# Altium footprint library lianchen_lib.PcbLib: 233 footprints (part 6 of 15)
Each footprint in its own frame and in the unit in brackets; x right, y up, seen from the top. Pads: shape width x height; smd on the part's side, far side on the other; paste and mask are expansions set on the pad; w line width, h text height; cw(c..) or ccw(c..) is an arc to the next point about the centre after c.
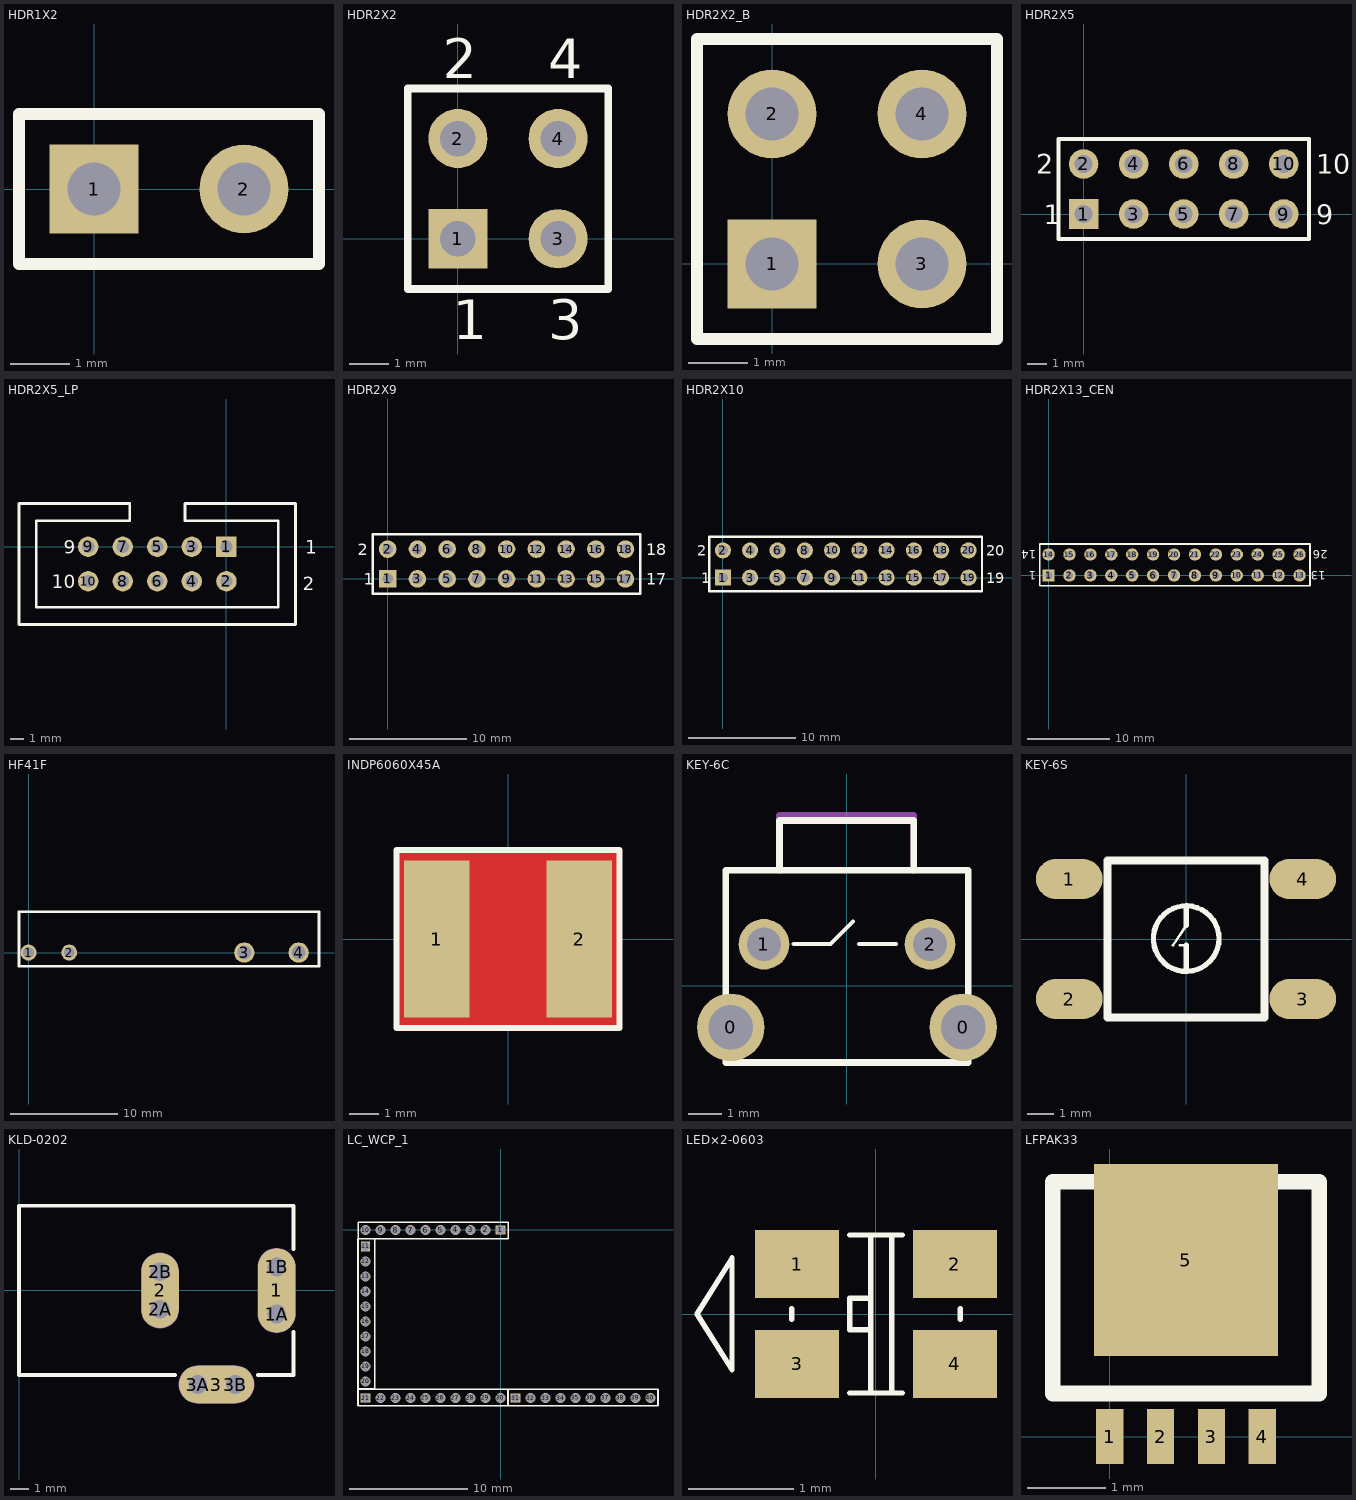
[diagram p5: the footprints below, top view; thin cyan lines are the x and y axes]

## HDR1X2 [mm]
pads (2):
  rect 1.5x1.5 hole 0.9: 1(0,0)
  round 1.5 hole 0.9: 2(2.54,0)
Top Overlay:
  lines w0.2: -1.27,-1.27 3.81,-1.27 3.81,1.27 -1.27,1.27 -1.27,-1.27

## HDR2X2 [mm]
pads (4):
  rect 1.5x1.5 hole 0.9: 1(0,0)
  round 1.5 hole 0.9: 2(0,2.54) 3(2.54,0) 4(2.54,2.54)
Top Overlay:
  lines w0.2: -1.27,-1.27 3.81,-1.27 3.81,3.81 -1.27,3.81 -1.27,-1.27
  text "3" at 2.286,-2.54 h1
  text "4" at 2.286,4.064 h1
  text "2" at -0.381,4.064 h1
  text "1" at -0.127,-2.54 h1

## HDR2X2_B [mm]
pads (4):
  rect 1.5x1.5 hole 0.9: 1(0,0)
  round 1.5 hole 0.9: 2(0,2.54) 3(2.54,0) 4(2.54,2.54)
Top Overlay:
  lines w0.2: -1.27,-1.27 3.81,-1.27 3.81,3.81 -1.27,3.81 -1.27,-1.27

## HDR2X5 [mm]
pads (10):
  rect 1.5x1.5 hole 0.9: 1(0,0)
  round 1.5 hole 0.9: 2(0,2.54) 3(2.54,0) 4(2.54,2.54) 5(5.08,0) 6(5.08,2.54) 7(7.62,0) 8(7.62,2.54) 9(10.16,0) 10(10.16,2.54)
Top Overlay:
  lines w0.2: -1.27,-1.27 -1.27,3.81 11.43,3.81 11.43,-1.27 -1.27,-1.27
  text "2" at -2.413,2.032 h1
  text "1" at -2.032,-0.508 h1
  text "9" at 11.811,-0.508 h1
  text "10" at 11.811,2.032 h1

## HDR2X5_LP [mm]
pads (10):
  rect 1.5x1.5 hole 0.9: 1(0.003,0.004)
  round 1.5 hole 0.9: 2(0.003,-2.536) 3(-2.537,0.004) 4(-2.537,-2.536) 5(-5.077,0.004) 6(-5.077,-2.536) 7(-7.617,0.004) 8(-7.617,-2.536) 9(-10.157,0.004) 10(-10.157,-2.536)
Top Overlay:
  lines w0.2: -7.109,1.909 -7.109,3.179 -15.237,3.179 -15.237,-5.711 5.083,-5.711 5.083,3.179 -3.045,3.179 -3.045,1.909 ; -7.1,1.909 -13.967,1.909 -13.967,-4.441 3.813,-4.441 3.813,1.91 -3.05,1.91
  text "2" at 5.603,-3.196 h1
  text "1" at 5.803,-0.496 h1
  text "9" at -11.935,-0.504 h1
  text "10" at -12.824,-3.044 h1
3D body: height 10, standoff 0, extent -15.237,-5.711 5.082,3.178
3D body: height 2, standoff 0, extent -15.24,-5.715 5.08,3.175
3D body: height 10, standoff 0, extent -0.5,-0.5 0.5,0.5
3D body: height 10, standoff 0, extent -3.04,-0.5 -2.04,0.5
3D body: height 10, standoff 0, extent -5.58,-0.5 -4.58,0.5
3D body: height 10, standoff 0, extent -8.12,-0.5 -7.12,0.5
3D body: height 10, standoff 0, extent -10.66,-0.5 -9.66,0.5
3D body: height 10, standoff 0, extent -10.66,-3.04 -9.66,-2.04
3D body: height 10, standoff 0, extent -8.12,-3.04 -7.12,-2.04
3D body: height 10, standoff 0, extent -5.58,-3.04 -4.58,-2.04
3D body: height 10, standoff 0, extent -3.04,-3.04 -2.04,-2.04
3D body: height 10, standoff 0, extent -0.5,-3.04 0.5,-2.04

## HDR2X9 [mm]
pads (18):
  rect 1.5x1.5 hole 0.9: 1(0,0)
  round 1.5 hole 0.9: 2(0,2.54) 3(2.54,0) 4(2.54,2.54) 5(5.08,0) 6(5.08,2.54) 7(7.62,0) 8(7.62,2.54) 9(10.16,0) 10(10.16,2.54) 11(12.7,0) 12(12.7,2.54) 13(15.24,0) 14(15.24,2.54) 15(17.78,0) 16(17.78,2.54) 17(20.32,0) 18(20.32,2.54)
Top Overlay:
  lines w0.2: -1.27,-1.27 -1.27,3.81 21.59,3.81 21.59,-1.27 -1.27,-1.27
  text "2" at -2.54,2.032 h1
  text "1" at -2.032,-0.508 h1
  text "17" at 22.098,-0.508 h1
  text "18" at 22.098,2.032 h1

## HDR2X10 [mm]
pads (20):
  rect 1.5x1.5 hole 0.9: 1(0,0)
  round 1.5 hole 0.9: 2(0,2.54) 3(2.54,0) 4(2.54,2.54) 5(5.08,0) 6(5.08,2.54) 7(7.62,0) 8(7.62,2.54) 9(10.16,0) 10(10.16,2.54) 11(12.7,0) 12(12.7,2.54) 13(15.24,0) 14(15.24,2.54) 15(17.78,0) 16(17.78,2.54) 17(20.32,0) 18(20.32,2.54) 19(22.86,0) 20(22.86,2.54)
Top Overlay:
  lines w0.2: -1.27,-1.27 24.13,-1.27 24.13,3.81 -1.27,3.81 -1.27,-1.27
  text "2" at -2.413,2.032 h1
  text "1" at -2.032,-0.508 h1
  text "19" at 24.511,-0.508 h1
  text "20" at 24.511,2.032 h1

## HDR2X13_CEN [mm]
pads (26):
  rect 1.5x1.5 hole 0.9: 1(0,0)
  round 1.5 hole 0.9: 2(2.54,0) 3(5.08,0) 4(7.62,0) 5(10.16,0) 6(12.7,0) 7(15.24,0) 8(17.78,0) 9(20.32,0) 10(22.86,0) 11(25.4,0) 12(27.94,0) 13(30.48,0) 14(0,2.54) 15(2.54,2.54) 16(5.08,2.54) 17(7.62,2.54) 18(10.16,2.54) 19(12.7,2.54) 20(15.24,2.54) 21(17.78,2.54) 22(20.32,2.54) 23(22.86,2.54) 24(25.4,2.54) 25(27.94,2.54) 26(30.48,2.54)
Top Overlay:
  lines w0.2: -1.058,-1.27 31.75,-1.27 31.75,3.81 -1.058,3.81 -1.058,-1.27
  text "1" at -1.524,0.508 h1
  text "14" at -1.524,3.048 h1
  text "13" at 33.655,0.508 h1
  text "26" at 33.909,3.048 h1

## HF41F [mm]
height 15
pads (4):
  round 1.5 hole 1: 1(0,0) 2(3.81,0)
  round 1.9 hole 1.3: 3(20.193,0) 4(25.273,0)
Top Overlay:
  lines w0.254: -0.889,-1.27 -0.889,3.81 27.178,3.81 27.178,-1.27 -0.889,-1.27
3D body: height 15, standoff 0.5, extent -0.889,-1.27 27.178,3.81

## INDP6060X45A [mm]
height 4.5
pads (2):
  rect 2.2x5.3 smd: 1(-2.4,0) 2(2.4,0)
Top Layer:
  pour cut-out: -3.75,3 3.75,3 3.75,-3 -3.75,-3
Top Overlay:
  lines w0.203: -3.75,-3 -3.75,3 3.75,3 3.75,-3 -3.75,-3
Mechanical 15:
  lines w0.051: -0.635,0 0,0 ; 0,-0.635 0,0 ; 0,0.635 0,0 ; 0.635,0 0,0 ; -3.75,-3 3.75,-3 3.75,3 -3.75,3 -3.75,-3
3D body: height 4.5, standoff 0, extent -2.991,-2.997 2.997,2.979

## KEY-6C [mil]
pads (4):
  round 80 hole 53: 0(-137.8,-49.21) 0(137.8,-49.21)
  round 60 hole 40: 1(-98.43,49.21) 2(98.43,49.21)
Top Overlay:
  lines w5: -63.05,49.5 -19.4,49.5 7.28,76.17 ; 14.4,49.5 58.05,49.5
  lines w8: -80,137 -80,196.05 79,196.05 79,137 ; -143.7,-91 143.7,-91 143.7,137 -143.7,137 -143.7,-91
Mechanical 15:
  lines w8: -80,137 -80,201.96 79,201.96 79,137

## KEY-6S [mil]
height 120
pads (4):
  oval 100x60 smd: 1(-175,90) 2(-175,-90) 3(175,-90) 4(175,90)
Top Overlay:
  circle w8: c0.27,0.61 r49.21
  lines w4: -19.42,-9.24 0.27,20.29 ; -9.57,-9.24 0.27,-9.24
  lines w8: 0.27,-48.61 0.27,-9.23 ; 0.27,20.29 0.27,49.82
  lines w12: -118.11,-118.11 -118.11,118.11 118.11,118.11 118.11,-118.11 -118.11,-118.11
3D body "10.stp": height 267.87, standoff 2.13, extent -200.64,-122.05 200.65,122.05

## KLD-0202 [mm]
pads (9):
  oval 2x4.5 all layers, no hole: 1(13.7,0)
  round 1.5 hole 1: 1A(13.7,-1.25) 1B(13.7,1.25) 2A(7.5,-1) 2B(7.5,1) 3A(9.5,-5) 3B(11.5,-5)
  oval 2x4 all layers, no hole: 2(7.5,0)
  oval 4x2 all layers, no hole: 3(10.5,-5)
Top Overlay:
  lines w0.2: 8.3,-4.5 0,-4.5 0,4.5 14.6,4.5 14.6,2.2 ; 12.7,-4.5 14.6,-4.5 14.6,-2.2
Mechanical 1:
  lines w1: 7.5,-1 7.5,1 ; 9.5,-5 11.5,-5 ; 13.7,-1.25 13.7,1.25
  text "Mech 2 - Clearance, move to internal plane if present" at 0.286,5.066 h0.3
  text "Mech 1 - Slot cut-out" at 0.286,5.566 h0.3
  text "Assign keep-out area to slot" at 0.286,6.566 h0.3
  text "Alert PCB fab to slot details" at 0.286,6.066 h0.3
Mechanical 2:
  lines w2.016: 7.5,-1 7.5,1 ; 9.5,-5 11.5,-5 ; 13.7,-1.25 13.7,1.25

## LC_WCP_1 [mm] "LC_WCP_1, V0.90"
height 3
pads (40):
  rect 0.85x0.8 hole 0.72: 1(0,0) 21(-11.43,-14.224) 31(1.27,-14.224)
  round 0.85 hole 0.72: 2(-1.27,0) 3(-2.54,0) 4(-3.81,0) 5(-5.08,0) 6(-6.35,0) 7(-7.62,0) 8(-8.89,0) 9(-10.16,0) 10(-11.43,0) 12(-11.43,-2.667) 13(-11.43,-3.937) 14(-11.43,-5.207) 15(-11.43,-6.477) 16(-11.43,-7.747) 17(-11.43,-9.017) 18(-11.43,-10.287) 19(-11.43,-11.557) 20(-11.43,-12.827) 22(-10.16,-14.224) 23(-8.89,-14.224) 24(-7.62,-14.224) 25(-6.35,-14.224) 26(-5.08,-14.224) 27(-3.81,-14.224) 28(-2.54,-14.224) 29(-1.27,-14.224) 30(0,-14.224) 32(2.54,-14.224) 33(3.81,-14.224) 34(5.08,-14.224) 35(6.35,-14.224) 36(7.62,-14.224) 37(8.89,-14.224) 38(10.16,-14.224) 39(11.43,-14.224) 40(12.7,-14.224)
  rect 0.8x0.85 hole 0.72: 11(-11.43,-1.397)
Top Overlay:
  lines w0.127: -12.065,-13.462 -12.065,-14.859 0.635,-14.859 ; -12.065,-13.462 0.635,-13.462 ; -12.065,-13.462 -10.668,-13.462 -10.668,-0.762 -12.065,-0.762 ; -12.065,-13.462 -12.065,-0.762 ; -12.065,-0.762 -12.065,0.635 0.635,0.635 0.635,-0.762 -12.065,-0.762 ; 0.635,-14.859 13.335,-14.859 13.335,-13.462 0.635,-13.462 ; 0.635,-14.859 0.635,-13.462 ; 0.635,-14.859 0.635,-13.462

## LED×2-0603 [mm]
pads (4):
  rect 0.8x0.65 smd: 1(-0.75,0.475) 2(0.75,0.475) 3(-0.75,-0.475) 4(0.75,-0.475)
Top Overlay:
  lines w0.05: -0.8,-0.05 -0.8,0.05 ; -0.25,-0.75 0.25,-0.75 ; -0.25,0.75 0.25,0.75 ; 0.8,-0.05 0.8,0.05 ; -1.7,0 -1.367,-0.533 -1.367,0.534 -1.7,0 ; -0.25,-0.15 -0.25,0.15 -0.05,0.15 -0.05,-0.15 -0.25,-0.15 ; -0.05,-0.75 -0.05,0.75 0.15,0.75 0.15,-0.75 -0.05,-0.75

## LFPAK33 [mm]
height 0.9
pads (5):
  rect 0.35x0.7 smd: 1(0,0) 2(0.65,0) 3(1.3,0) 4(1.95,0)
  rect 2.35x2.45 smd: 5(0.975,2.25)
Top Overlay:
  lines w0.2: -0.725,0.55 2.675,0.55 2.675,3.25 -0.725,3.25 -0.725,0.55